# Altium schematic symbol library mcHF_ui.SchLib: 26 symbols
Pins are listed as number, name and electrical type; pins without a type are passive.

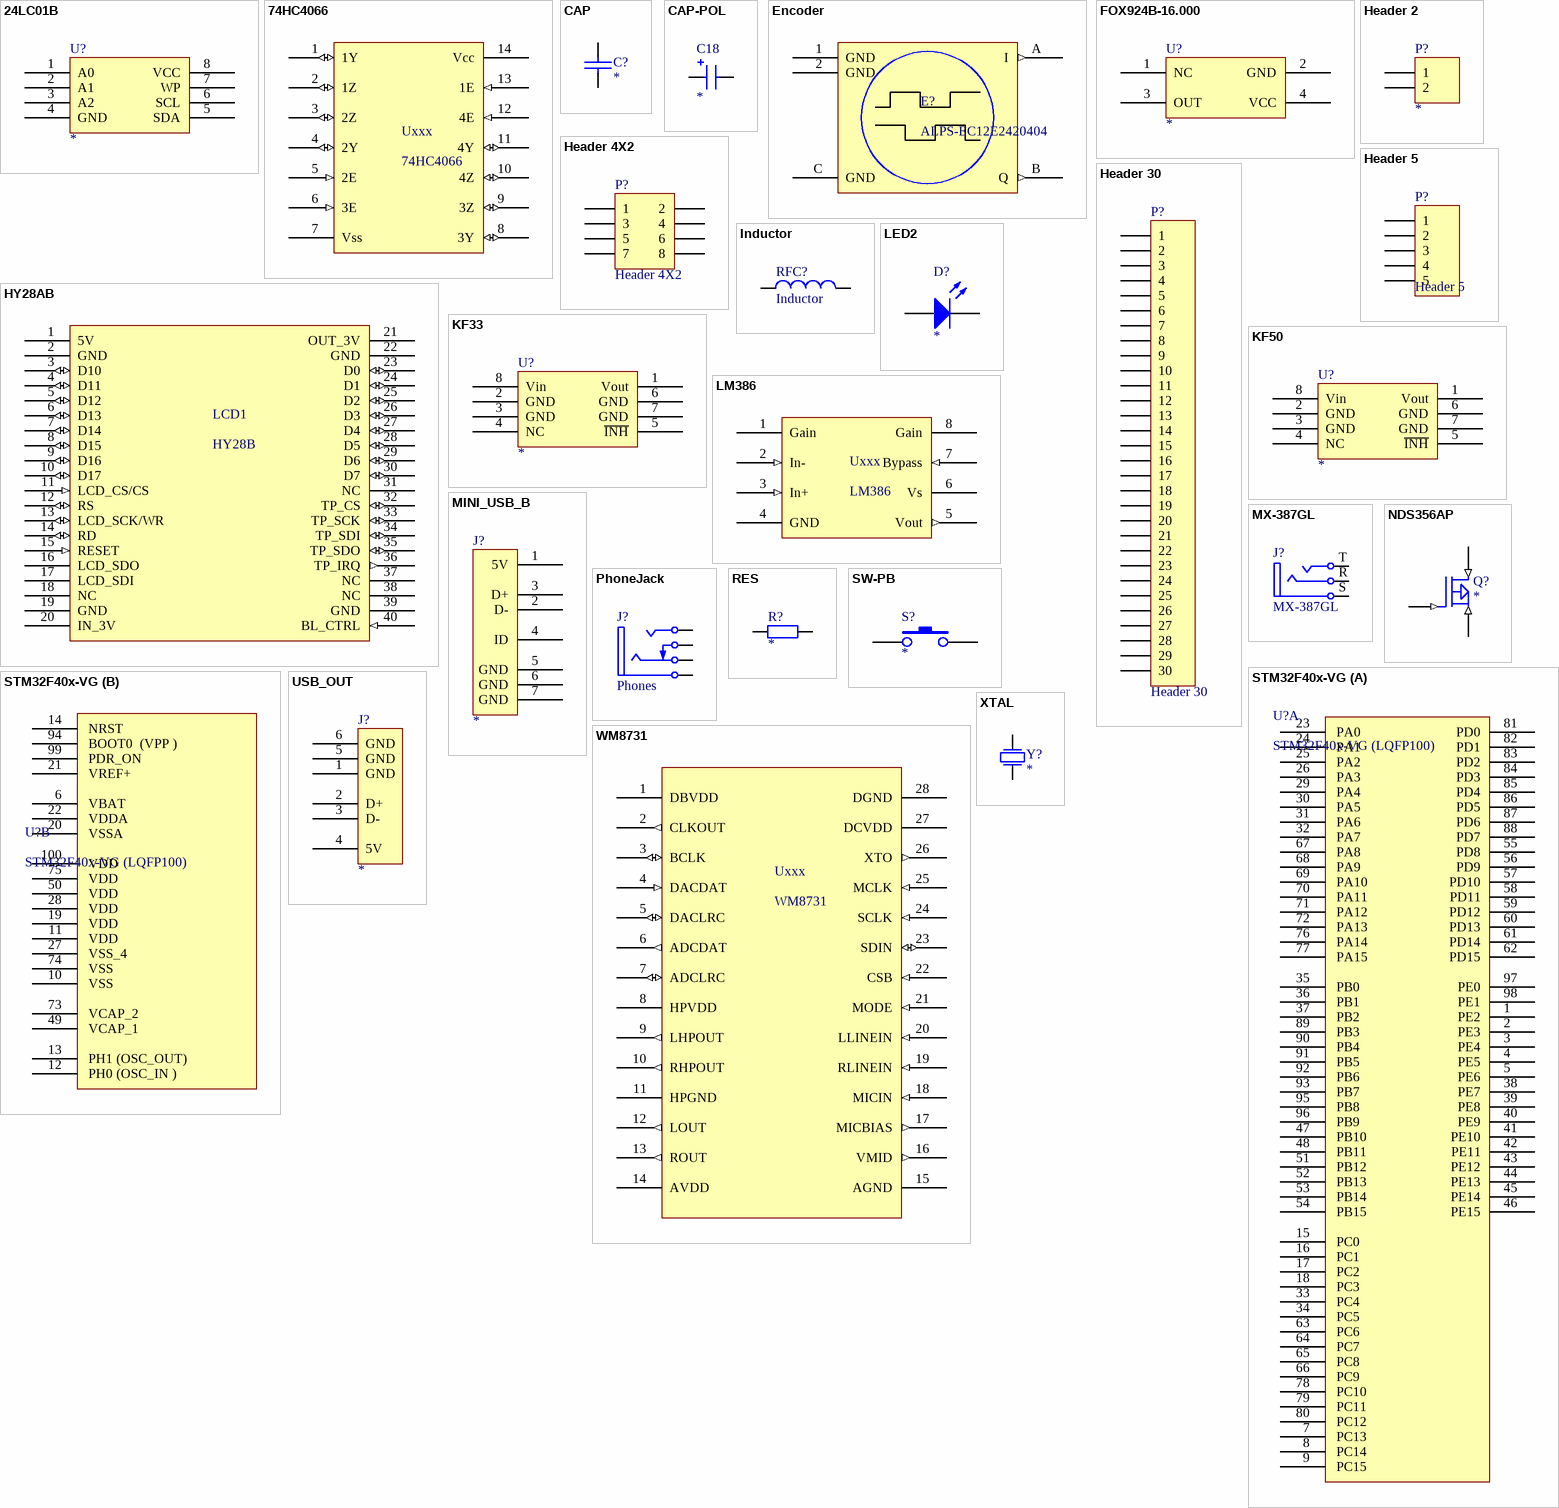
[diagram p0: symbols 24LC01B to XTAL]

## 24LC01B
designator U?
1K I2C Eeprom
footprint SO-8
pins: 1 A0, 2 A1, 3 A2, 4 GND, 5 SDA, 6 SCL, 7 WP, 8 VCC

## 74HC4066
designator Uxxx
Quad bilateral switch
footprint SO-14
pins: 1 1Y (io), 2 1Z (io), 3 2Z (io), 4 2Y (io), 5 2E (in), 6 3E (in), 7 Vss (power), 8 3Y (io), 9 3Z (io), 10 4Z (io), 11 4Y (io), 12 4E (in), 13 1E (in), 14 Vcc (power)

## CAP
designator C?
Capacitor
footprint 0805
pins: 1, 2

## CAP-POL
designator C18
Electrolitic capacitor
footprint 1206
pins: 1, 2
2 alternate drawings of the same symbol

## Encoder
designator E?, comment ALPS-EC12E2420404
ALPS Rotary Encoder
footprint Encoder (Alps Rotary Encoder)
pins: 1 GND (power), 2 GND (power), A I (out), B Q (out), C GND (power)

## FOX924B-16.000
designator U?
TCXO
footprint 2SMX-3SMXB (Quartz Crystal, SM; Body 6.0 x 3.5 mm (LxW))
pins: 1 NC, 2 GND, 3 OUT, 4 VCC

## Header 2
designator P?
Header, 2-Pin
footprint SIP2
signal-integrity model Connector
pins: 1, 2

## Header 4X2
designator P?
Header, 4-Pin, Dual row; LatestRevisionDate: 17-Jul-2002; LatestRevisionNote: Re-released for DXP Platform.; Publisher: Altium Limited
footprint HDR2X4 (Connector; Header; 4x2 Position)
signal-integrity model Connector
pins: 1, 2, 3, 4, 5, 6, 7, 8

## Header 5
designator P?
Header, 5-Pin
signal-integrity model Connector
footprint HDR1X5 (Connector; Header; 5 Position)
pins: 1, 2, 3, 4, 5

## Header 30
designator P?
Header, 30-Pin
signal-integrity model Connector
footprint HDR1X30 (Connector; Header; 30 Position)
pins: 1, 2, 3, 4, 5, 6, 7, 8, 9, 10, 11, 12, 13, 14, 15, 16, 17, 18, 19, 20, 21, 22, 23, 24, 25, 26, 27, 28, 29, 30

## HY28AB
designator LCD1, comment HY28B
2.8 inch TFT LCD
footprint HY28A
pins: 1 5V (power), 2 GND (power), 3 D10 (io), 4 D11 (io), 5 D12 (io), 6 D13 (io), 7 D14 (io), 8 D15 (io), 9 D16 (io), 10 D17 (io), 11 LCD_CS/CS (in), 12 RS (io), 13 LCD_SCK/WR (io), 14 RD (io), 15 RESET (in), 16 LCD_SDO, 17 LCD_SDI, 18 NC, 19 GND (power), 20 IN_3V (power), 21 OUT_3V (power), 22 GND (power), 23 D0 (io), 24 D1 (io), 25 D2 (io), 26 D3 (io), 27 D4 (io), 28 D5 (io), 29 D6 (io), 30 D7 (io), 31 NC, 32 TP_CS (io), 33 TP_SCK (io), 34 TP_SDI (io), 35 TP_SDO (io), 36 TP_IRQ (out), 37 NC, 38 NC, 39 GND (power), 40 BL_CTRL (in)

## Inductor
designator RFC?
footprint 0805
footprint INDC1608L (Chip Inductor, Body 1.6x0.8mm, IPC High Density)
footprint 2029 (Chip Inductor, Body 2.0x1.2mm, IPC High Density)
footprint 0603 (Chip Inductor, Body 0.6x0.3mm, IPC High Density)
footprint INDC3216 (Chip Inductor, Body 3.2x1.6mm, IPC High Density)
footprint INDC4532 (Chip Inductor, Body 4.5x3.2mm, IPC High Density)
signal-integrity model Inductor
pins: 1, 2

## KF33
designator U?
3.3V regulator with inhibit
footprint SO-8
pins: 1 Vout, 2 GND, 3 GND, 4 NC, 5 ~{INH}, 6 GND, 7 GND, 8 Vin

## KF50
designator U?
5V regulator with inhibit
footprint SO-8
pins: 1 Vout, 2 GND, 3 GND, 4 NC, 5 ~{INH}, 6 GND, 7 GND, 8 Vin

## LED2
designator D?
LED; Published: 8-Jun-2000; LatestRevisionDate: 17-Jul-2002; LatestRevisionNote: Re-released for DXP Platform.; PackageVersion: Feb-2002; PackageReference: 3.2X1.6X1.1; Publisher: Altium Limited; PackageDescription: SM LED; 2 Flat Leads
footprint LED2
pins: 1 A, 2 K

## LM386
designator Uxxx
Low Voltage Audio Power Amplifier
footprint SO-8
pins: 1 Gain, 2 In- (in), 3 In+ (in), 4 GND (power), 5 Vout (out), 6 Vs (power), 7 Bypass (in), 8 Gain

## MINI_USB_B
designator J?
Mini USB connector
footprint MINI_USB_B_SMD
pins: 1 5V, 2 D-, 3 D+, 4 ID, 5 GND, 6 GND, 7 GND

## MX-387GL
designator J?
Jack Socket,Thru-Hole
footprint MX-387GL_new1 (Pro Signal 3pin receptacle)
pins: R 3 "Ring/Right Channel", S 2 (power) "Sleeve (Ground)", T 1 "Tip/Left Channel"

## NDS356AP
designator Q?
NDS356AP
footprint SOT-23
pins: 1 G (in), 2 S (in), 3 D (in)

## PhoneJack
designator J?, comment Phones
Jack Socket 4 pin
signal-integrity model JACK Socket
footprint KLBR4 (Lumberg KLBR4 phones receptacle)
pins: B "Ring Normal (Break Contact)", R "Ring/Right Channel", S (power) "Sleeve (Ground)", T "Tip/Left Channel"

## RES
designator R?
Resistor
footprint 0805
pins: 1, 2
2 alternate drawings of the same symbol

## STM32F40x-VG
designator U?, comment STM32F40x-VG (LQFP100)
Cortex M4 Controller
footprint SQFP14X14-100(N)
part A pins: 1  PE2, 2  PE3, 3  PE4, 4  PE5, 5  PE6, 7  PC13, 8  PC14, 9  PC15, 15  PC0, 16  PC1, 17  PC2, 18  PC3, 23  PA0, 24  PA1, 25  PA2, 26  PA3, 29  PA4, 30  PA5, 31  PA6, 32  PA7, 33  PC4, 34  PC5, 35  PB0, 36  PB1, 37  PB2  , 38  PE7, 39  PE8, 40  PE9, 41  PE10, 42  PE11, 43  PE12, 44  PE13, 45  PE14, 46  PE15, 47  PB10, 48  PB11, 51  PB12, 52  PB13, 53  PB14, 54  PB15, 55  PD8, 56  PD9, 57  PD10, 58  PD11, 59  PD12, 60  PD13, 61  PD14, 62  PD15, 63  PC6, 64  PC7, 65  PC8, 66  PC9, 67  PA8, 68  PA9, 69  PA10, 70  PA11, 71  PA12, 72  PA13, 76  PA14, 77  PA15, 78  PC10, 79  PC11, 80  PC12, 81  PD0, 82  PD1, 83  PD2, 84  PD3, 85  PD4, 86  PD5, 87  PD6, 88  PD7, 89  PB3, 90  PB4, 91  PB5, 92  PB6, 93  PB7, 95  PB8, 96  PB9, 97  PE0, 98  PE1
part B pins: 6  VBAT  , 10  VSS  , 11  VDD  , 12  PH0 (OSC_IN ), 13  PH1 (OSC_OUT), 14  NRST  , 19  VDD  , 20  VSSA  , 21  VREF+  , 22  VDDA  , 27  VSS_4  , 28  VDD  , 49  VCAP_1  , 50  VDD  , 73  VCAP_2  , 74  VSS  , 75  VDD  , 94  BOOT0  (VPP ), 99  PDR_ON  , 100  VDD  

## SW-PB
designator S?
Push Button
footprint BUTTON_SMD
pins: 1, 2

## USB_OUT
designator J?
USB Host Connector
footprint USB_OUT_A
pins: 1 GND, 2 D+, 3 D-, 4 5V, 5 GND, 6 GND
2 alternate drawings of the same symbol

## WM8731
designator Uxxx
Audio CODEC
footprint SSOP-28
pins: 1 DBVDD (power), 2 CLKOUT (out), 3 BCLK (io), 4 DACDAT (in), 5 DACLRC (io), 6 ADCDAT (out), 7 ADCLRC (io), 8 HPVDD (power), 9 LHPOUT (out), 10 RHPOUT (out), 11 HPGND (power), 12 LOUT (out), 13 ROUT (out), 14 AVDD (power), 15 AGND (power), 16 VMID (out), 17 MICBIAS (out), 18 MICIN (in), 19 RLINEIN (in), 20 LLINEIN (in), 21 MODE (in), 22 CSB (in), 23 SDIN (io), 24 SCLK (in), 25 MCLK (in), 26 XTO (out), 27 DCVDD (power), 28 DGND (power)

## XTAL
designator Y?
Crystal Oscillator
footprint XTAL2
pins: 1 P1, 2 P2